# EAGLE library part CY8C58LP-68PIN (library FlashPCB_ICs)
CY8C5868 - 32-Bit 256KB Microcontroller 68QFN Technical Specifications: Number of I/O: 38 Core Size: 32-Bit Single-Core Speed: 67MHz Voltage - Supply (Vcc/Vdd): 1.71V ~ 5.5V Operating Temperature: -40°C ~ 85°C (TA) Component Search: CY8C5868 <https://www.flashpcb.com/components> Datasheet: PSoC® 5LP: CY8C58LP Family Datasheet Programmable System-on-Chip (PSoC®) <https://www.infineon.com/dgdl/Infineon-PSoC_5LP_CY8C58LP_Family_Datasheet_Programmable_System-on-Chip_(PSoC_)-DataSheet-v15_00-EN.pdf?fileId=8ac78c8c7d0d8da4017d0ec547013ab9>
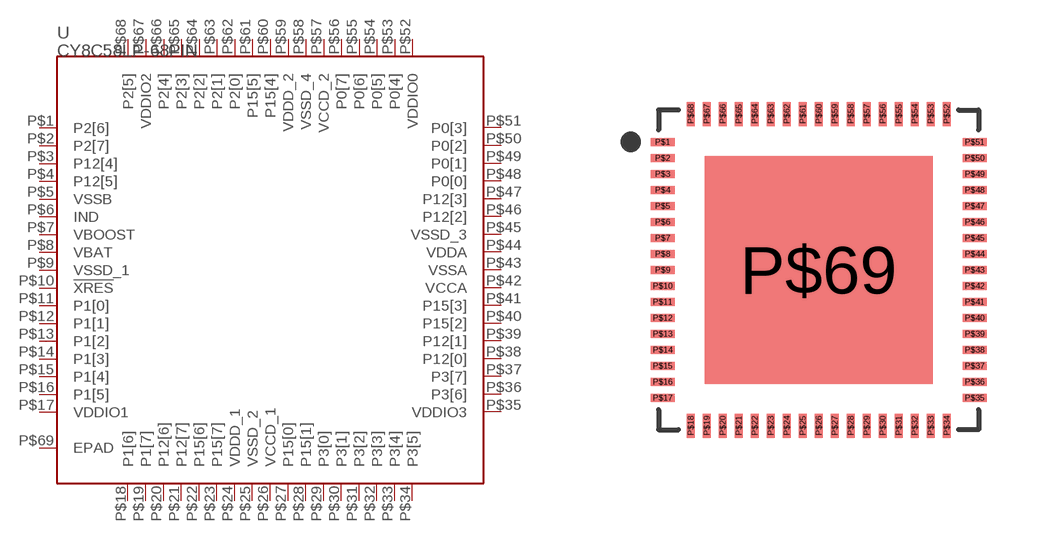
[diagram p40: symbol with the pads of 68-QFN(8X8)-EXPOSED-PAD; footprint 68-QFN(8X8)-EXPOSED-PAD]

Designator prefix U

## CY8C58LP-68PIN  [68-QFN(8X8)-EXPOSED-PAD]
P$1  P2[6]
P$2  P2[7]
P$3  P12[4]
P$4  P12[5]
P$5  VSSB
P$6  IND
P$7  VBOOST
P$8  VBAT
P$9  VSSD_1
P$10  !XRES!
P$11  P1[0]
P$12  P1[1]
P$13  P1[2]
P$14  P1[3]
P$15  P1[4]
P$16  P1[5]
P$17  VDDIO1
P$18  P1[6]
P$19  P1[7]
P$20  P12[6]
P$21  P12[7]
P$22  P15[6]
P$23  P15[7]
P$24  VDDD_1
P$25  VSSD_2
P$26  VCCD_1
P$27  P15[0]
P$28  P15[1]
P$29  P3[0]
P$30  P3[1]
P$31  P3[2]
P$32  P3[3]
P$33  P3[4]
P$34  P3[5]
P$35  VDDIO3
P$36  P3[6]
P$37  P3[7]
P$38  P12[0]
P$39  P12[1]
P$40  P15[2]
P$41  P15[3]
P$42  VCCA
P$43  VSSA
P$44  VDDA
P$45  VSSD_3
P$46  P12[2]
P$47  P12[3]
P$48  P0[0]
P$49  P0[1]
P$50  P0[2]
P$51  P0[3]
P$52  VDDIO0
P$53  P0[4]
P$54  P0[5]
P$55  P0[6]
P$56  P0[7]
P$57  VCCD_2
P$58  VSSD_4
P$59  VDDD_2
P$60  P15[4]
P$61  P15[5]
P$62  P2[0]
P$63  P2[1]
P$64  P2[2]
P$65  P2[3]
P$66  P2[4]
P$67  VDDIO2
P$68  P2[5]
P$69  EPAD

## Footprint 68-QFN(8X8)-EXPOSED-PAD (pad centres in mm)
smd 0.6 x 0.2: P$1 -3.9,3.2; P$2 -3.9,2.8; P$3 -3.9,2.4; P$4 -3.9,2; P$5 -3.9,1.6; P$6 -3.9,1.2; P$7 -3.9,0.8; P$8 -3.9,0.4; P$9 -3.9,0; P$10 -3.9,-0.4; P$11 -3.9,-0.8; P$12 -3.9,-1.2; P$13 -3.9,-1.6; P$14 -3.9,-2; P$15 -3.9,-2.4; P$16 -3.9,-2.8; P$17 -3.9,-3.2; P$35 3.9,-3.2; P$36 3.9,-2.8; P$37 3.9,-2.4; P$38 3.9,-2; P$39 3.9,-1.6; P$40 3.9,-1.2; P$41 3.9,-0.8; P$42 3.9,-0.4; P$43 3.9,0; P$44 3.9,0.4; P$45 3.9,0.8; P$46 3.9,1.2; P$47 3.9,1.6; P$48 3.9,2; P$49 3.9,2.4; P$50 3.9,2.8; P$51 3.9,3.2
smd 0.2 x 0.6: P$18 -3.2,-3.9; P$19 -2.8,-3.9; P$20 -2.4,-3.9; P$21 -2,-3.9; P$22 -1.6,-3.9; P$23 -1.2,-3.9; P$24 -0.8,-3.9; P$25 -0.4,-3.9; P$26 0,-3.9; P$27 0.4,-3.9; P$28 0.8,-3.9; P$29 1.2,-3.9; P$30 1.6,-3.9; P$31 2,-3.9; P$32 2.4,-3.9; P$33 2.8,-3.9; P$34 3.2,-3.9; P$52 3.2,3.9; P$53 2.8,3.9; P$54 2.4,3.9; P$55 2,3.9; P$56 1.6,3.9; P$57 1.2,3.9; P$58 0.8,3.9; P$59 0.4,3.9; P$60 0,3.9; P$61 -0.4,3.9; P$62 -0.8,3.9; P$63 -1.2,3.9; P$64 -1.6,3.9; P$65 -2,3.9; P$66 -2.4,3.9; P$67 -2.8,3.9; P$68 -3.2,3.9
smd 5.7 x 5.7: P$69 0,0